# Altium footprint library StaticModulo_v1i2.PcbLib: 5 footprints
Each footprint in its own frame and in the unit in brackets; x right, y up, seen from the top. Pads: shape width x height; smd on the part's side, far side on the other; paste and mask are expansions set on the pad; w line width, h text height; cw(c..) or ccw(c..) is an arc to the next point about the centre after c.
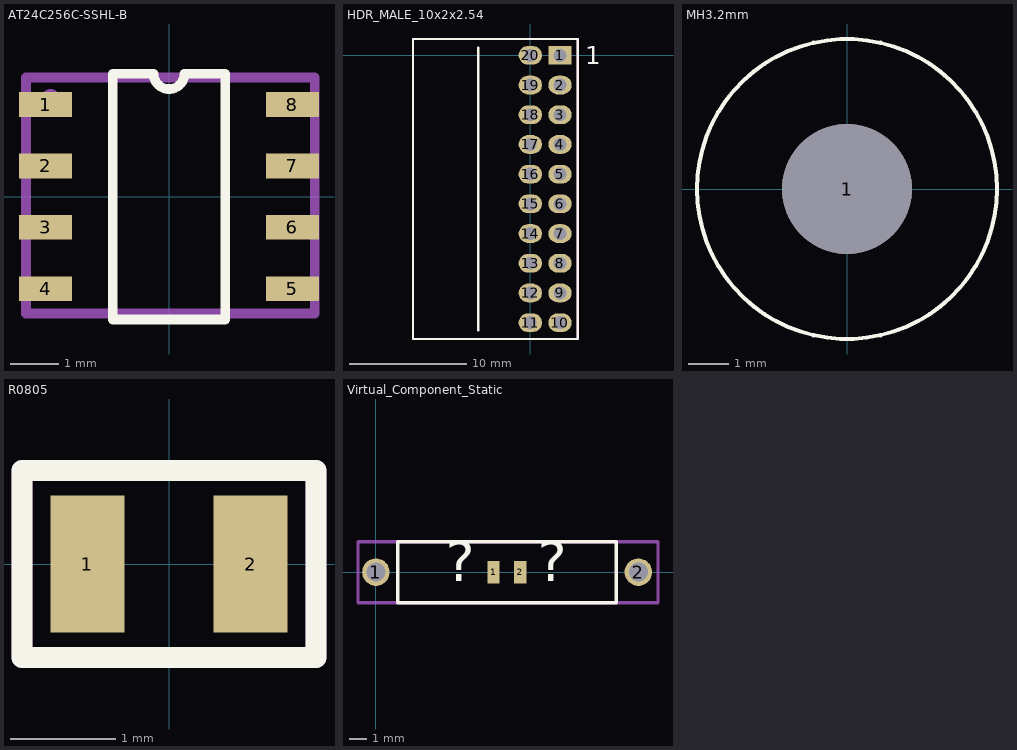
[diagram p0: the footprints below, top view; thin cyan lines are the x and y axes]

## AT24C256C-SSHL-B [mm]
pads (8):
  rect 1.1x0.51 smd mask+0.02: 1(-2.55,1.905) 2(-2.55,0.635) 3(-2.55,-0.635) 4(-2.55,-1.905) 5(2.55,-1.905) 6(2.55,-0.635) 7(2.55,0.635) 8(2.55,1.905)
Top Overlay:
  lines w0.2: -1.165,-2.54 -1.165,2.54 -0.318,2.54 ccw(c0,2.54) 0.318,2.54 1.165,2.54 1.165,-2.54 -1.165,-2.54
Layout:
  circle w0.2: c-2.448,2.032 r0.092
  lines w0.2: -2.956,-2.413 -2.956,2.464 3.013,2.464 3.013,-2.413 -2.956,-2.413
  text "'.Designator'" at -2.474,-0.533 h1.2
3D body "SOIC-8-1.STEP": height 1.75, standoff 0, extent -2.95,-2.445 3.05,2.455

## HDR_MALE_10x2x2.54 [mm] "PRPC010DBAN-M71RC"
pads (20):
  rect 2x1.6 hole 1.1: 1(2.54,0)
  oval 2x1.6 hole 1.1: 2(2.54,-2.54) 4(2.54,-7.62) 5(2.54,-10.16) 6(2.54,-12.7) 7(2.54,-15.24) 8(2.54,-17.78) 9(2.54,-20.32) 10(2.54,-22.86) 11(0,-22.86) 12(0,-20.32) 13(0,-17.78) 14(0,-15.24) 15(0,-12.7) 16(0,-10.16) 17(0,-7.62) 19(0,-2.54) 20(0,0)
  oval 2x1.6 hole 1.1 mask+0.102: 3(2.54,-5.08) 18(0,-5.08)
Top Overlay:
  lines w0.2: -4.445,-23.495 -4.445,0.635 ; -10.033,-24.257 -10.033,1.397 4.064,1.397 4.064,-24.257 -10.033,-24.257
  text "1" at 4.699,-0.762 h1.52
Layout:
  circle w1: c-0.076,-0.025 r0.025
  lines w0.2: -10.033,-24.257 2.667,-24.257 4.064,-24.257 4.064,1.397 -10.033,1.397 -10.033,-24.257
  text "'.Designator'" at -2.54,-18.288 h1.52
3D body "C010DBAN-M71RC.STEP": height 5.45, standoff -2.6, extent -9.926,-24.105 2.794,1.295

## MH3.2mm [mm] "MHNP 3.2mm"
pads (1):
  round 3.2 hole 3.2 unplated: 1(0,0)
Top Overlay:
  circle w0.1: c0,0 r3.7

## R0805 [mm]
pads (2):
  rect 0.7x1.3 smd: 1(-0.775,0) 2(0.775,0)
Top Overlay:
  lines w0.2: -1.397,-0.889 -1.397,0.889 1.397,0.889 1.397,-0.889 -1.397,-0.889
Layout:
  lines w0.2: -1.397,-0.889 1.397,-0.889 1.397,0.889 -1.397,0.889 -1.397,-0.889
  text "'.Designator'" at -0.635,-0.254 h0.7
3D body "RES_2013-0805.step": height 0.77, standoff 0.01, extent -1.15,-0.675 1.15,0.675

## Virtual_Component_Static [mm]
pads (4):
  round 1.6 hole 1.1: 1(0,0) 2(15.24,0)
  rect 0.7x1.3 smd: 1(6.832,0) 2(8.382,0)
Top Overlay:
  lines w0.2: 1.27,-1.778 13.97,-1.778 13.97,0 13.97,1.778 1.27,1.778 1.27,0 1.27,-1.778
  text "?" at 4.064,-1.27 h4
  text "?" at 9.398,-1.27 h4
Layout:
  lines w0.2: -1.041,-1.778 -1.041,1.778 16.383,1.778 16.383,-1.778 -1.041,-1.778
  text "Virtual Component" at -0.381,-0.508 h1.02